# EAGLE library part TPS54561 (library PWR)
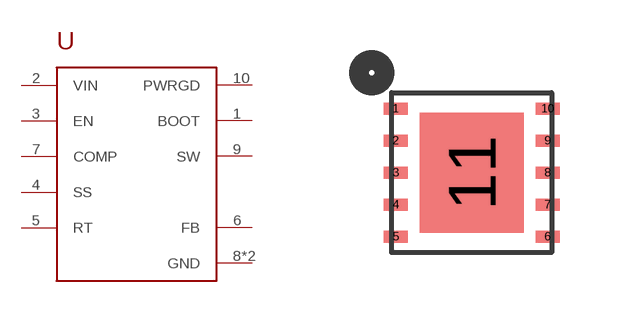
[diagram p1: symbol with the pads of 10-WSON; footprint 10-WSON]

Designator prefix U

## TPS54561  [10-WSON]
1  BOOT
2  VIN
3  EN
4  SS
5  RT
6  FB
7  COMP
8  GND
9  SW
10  PWRGD
11  GND

## Footprint 10-WSON (pad centres in mm)
smd 0.6 x 0.3: 1 -1.9,1.6; 2 -1.9,0.8; 3 -1.9,0; 4 -1.9,-0.8; 5 -1.9,-1.6; 6 1.9,-1.6; 7 1.9,-0.8; 8 1.9,0; 9 1.9,0.8; 10 1.9,1.6
smd 2.6 x 3: 11 0,0